# Altium schematic symbol library 10AS027E3F29I2SG.SchLib: 1 symbol
Pins are listed as number, name and electrical type; pins without a type are passive.

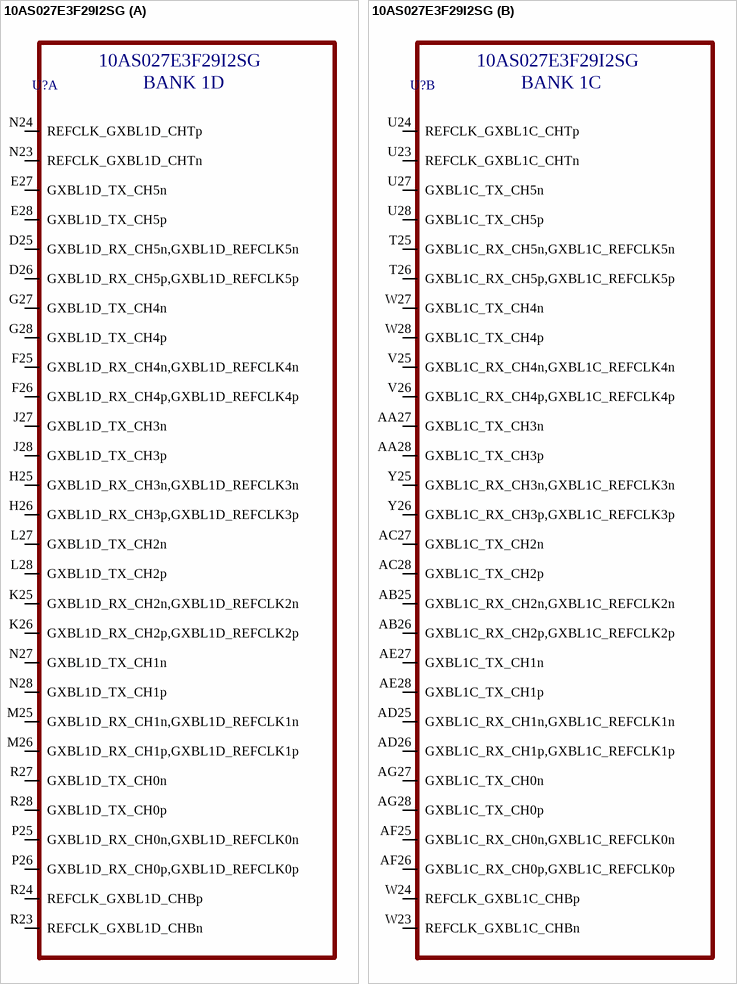
[diagram p0: symbol 10AS027E3F29I2SG]

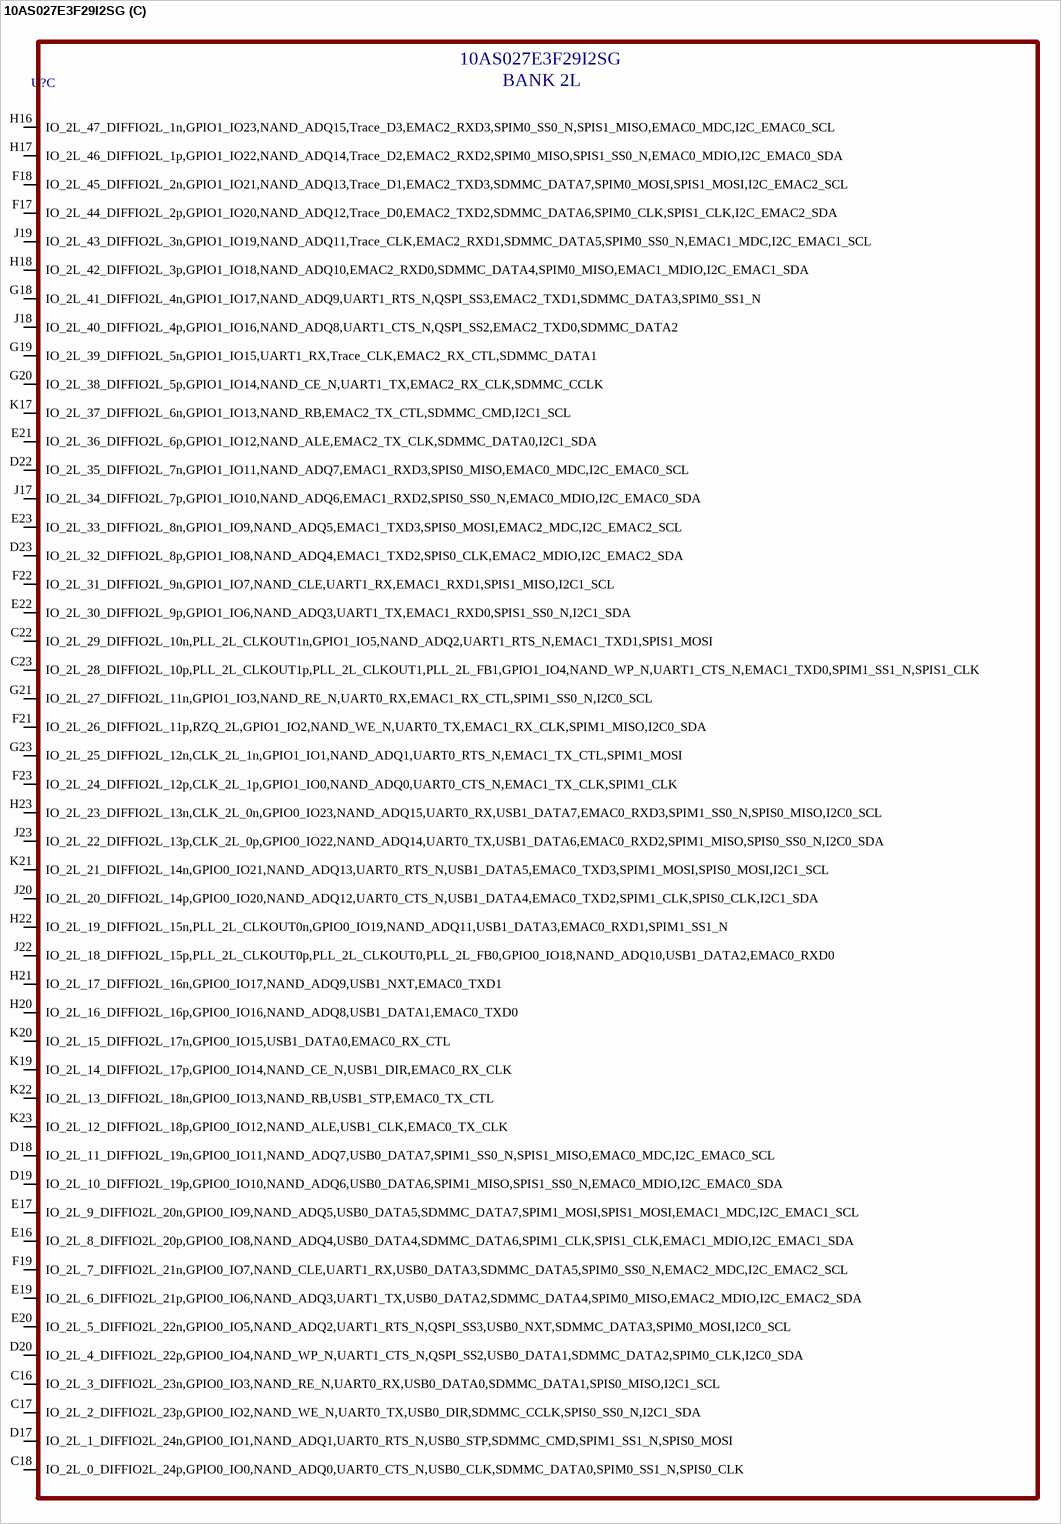
[diagram p1: symbol 10AS027E3F29I2SG]

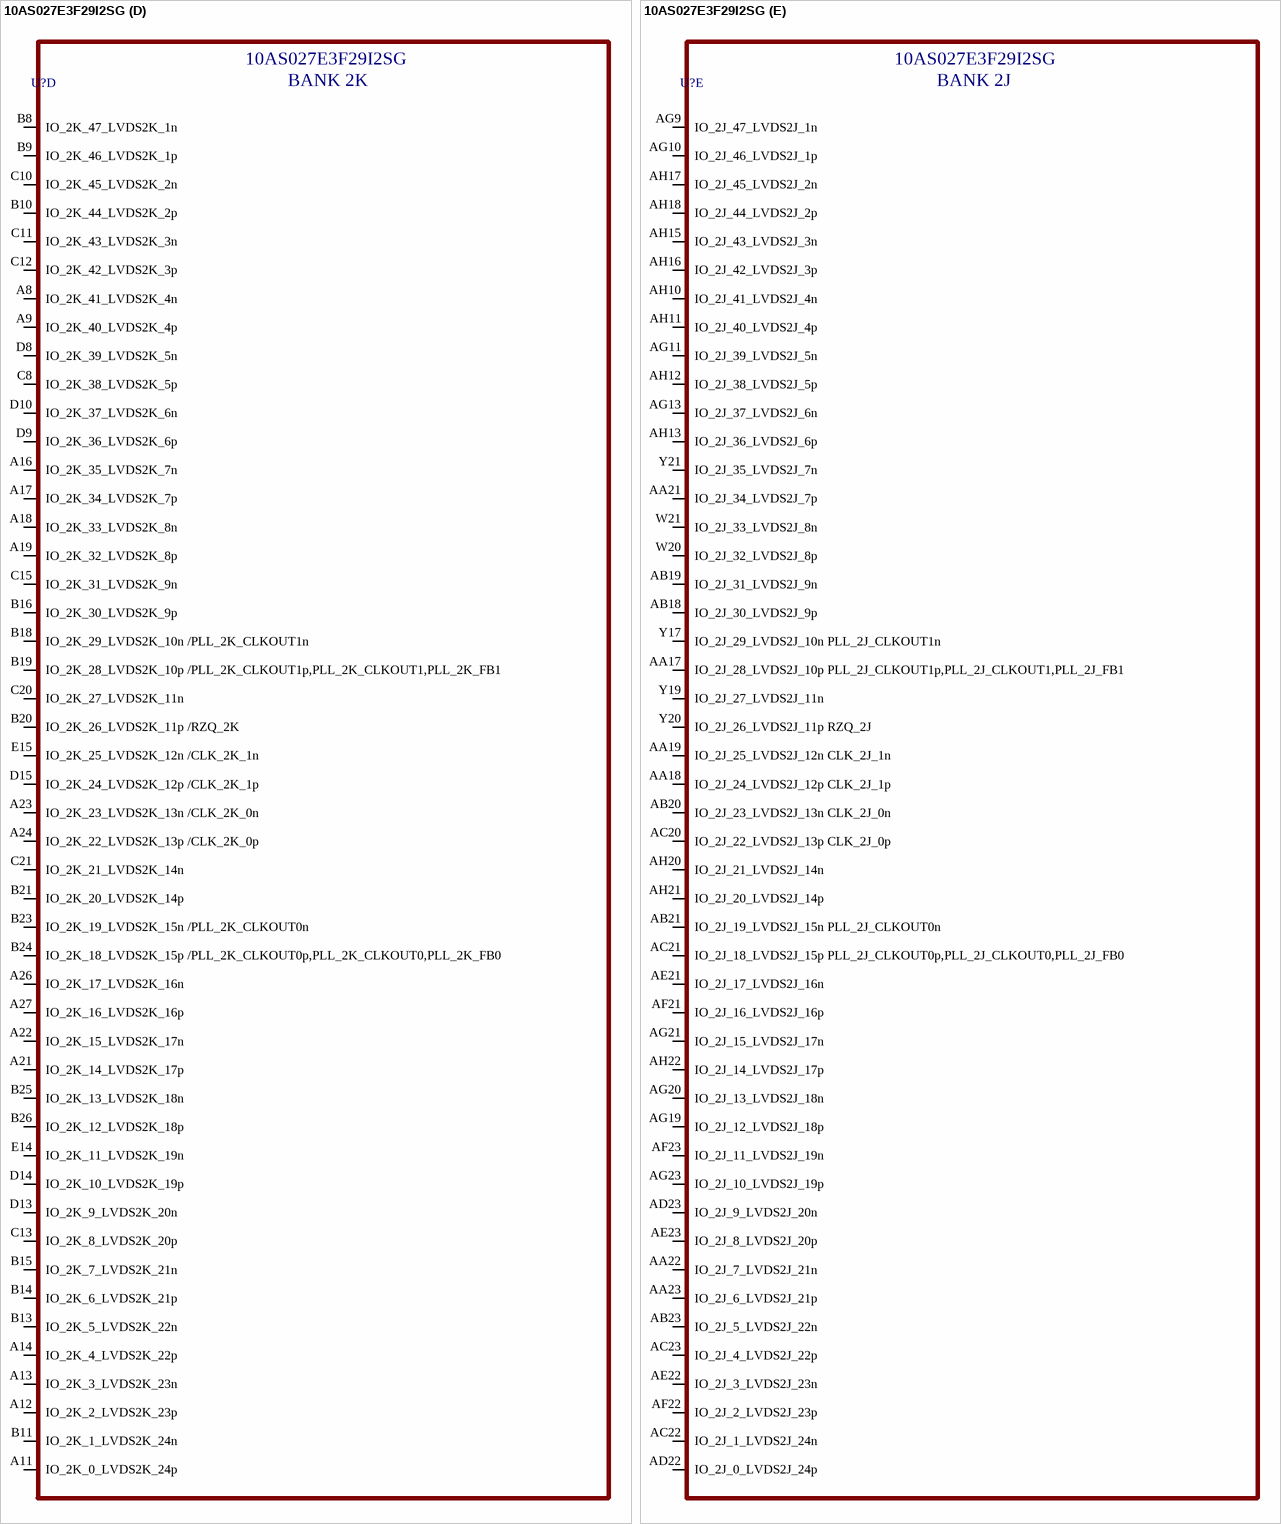
[diagram p2: symbol 10AS027E3F29I2SG]

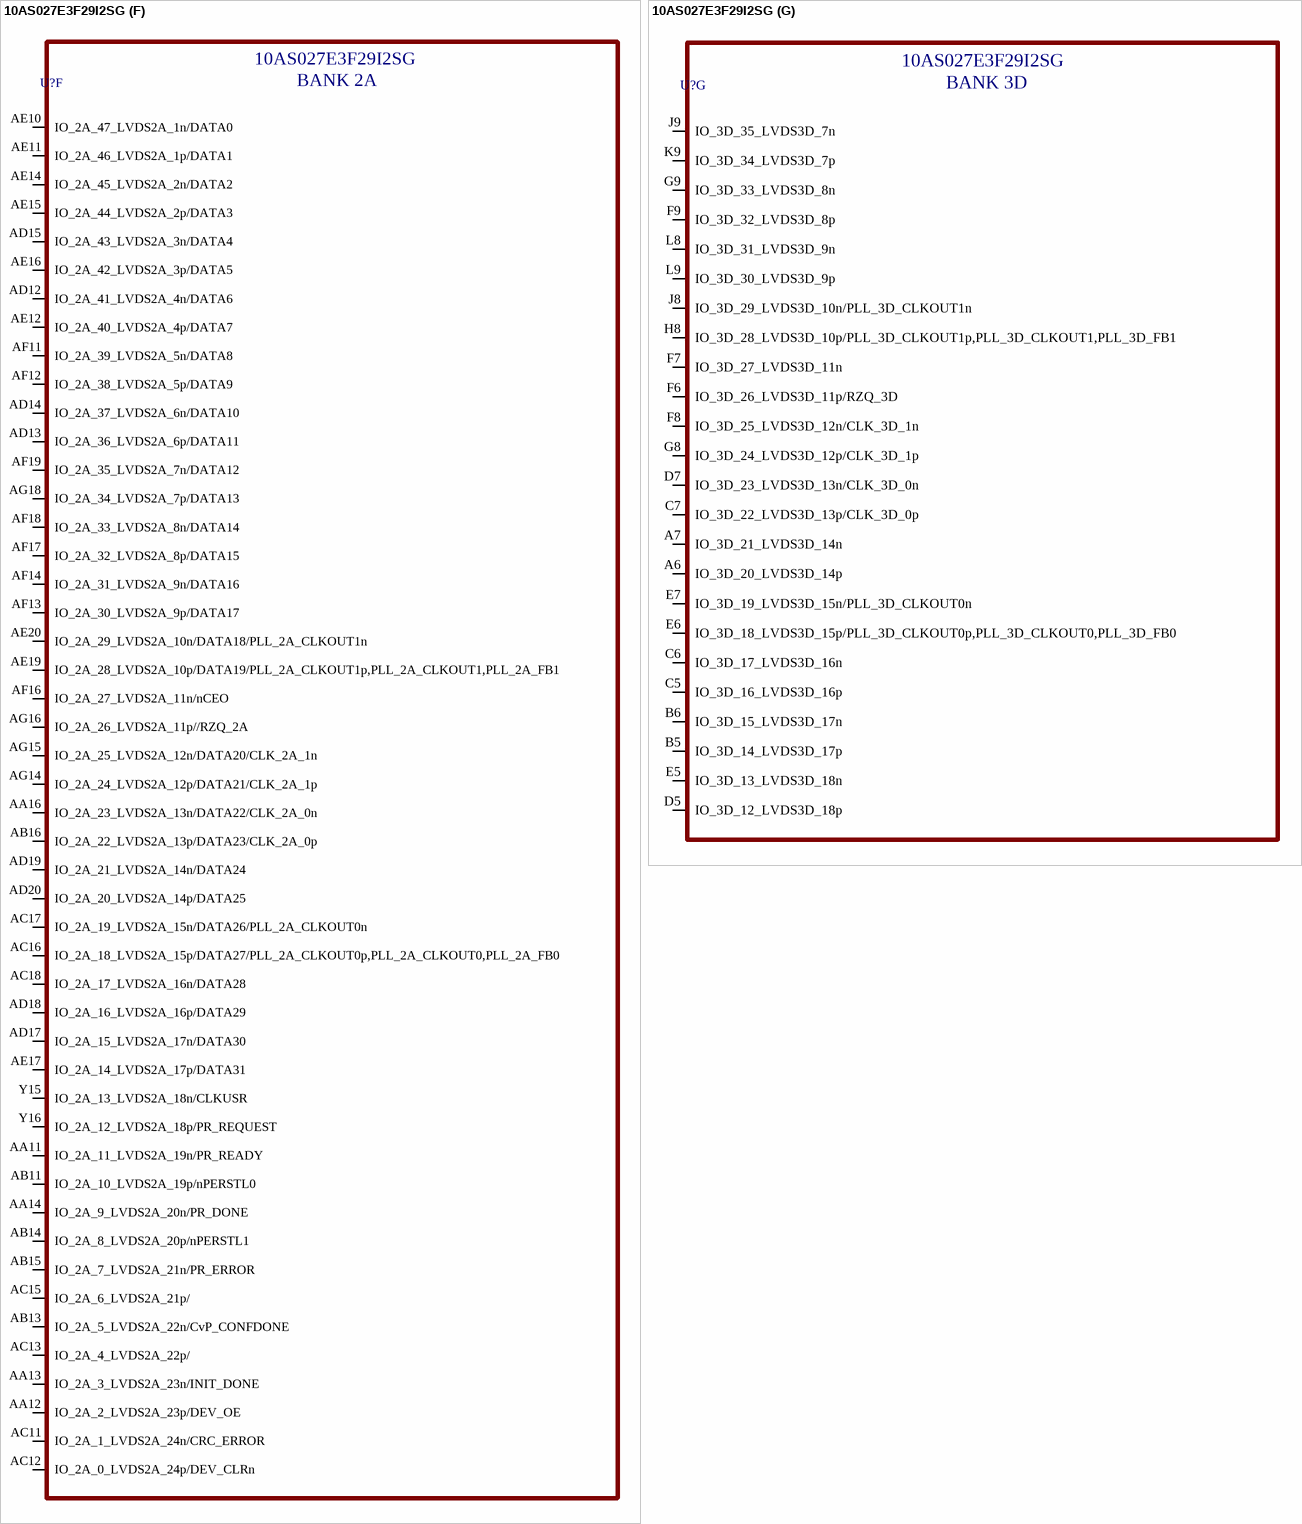
[diagram p3: symbol 10AS027E3F29I2SG]

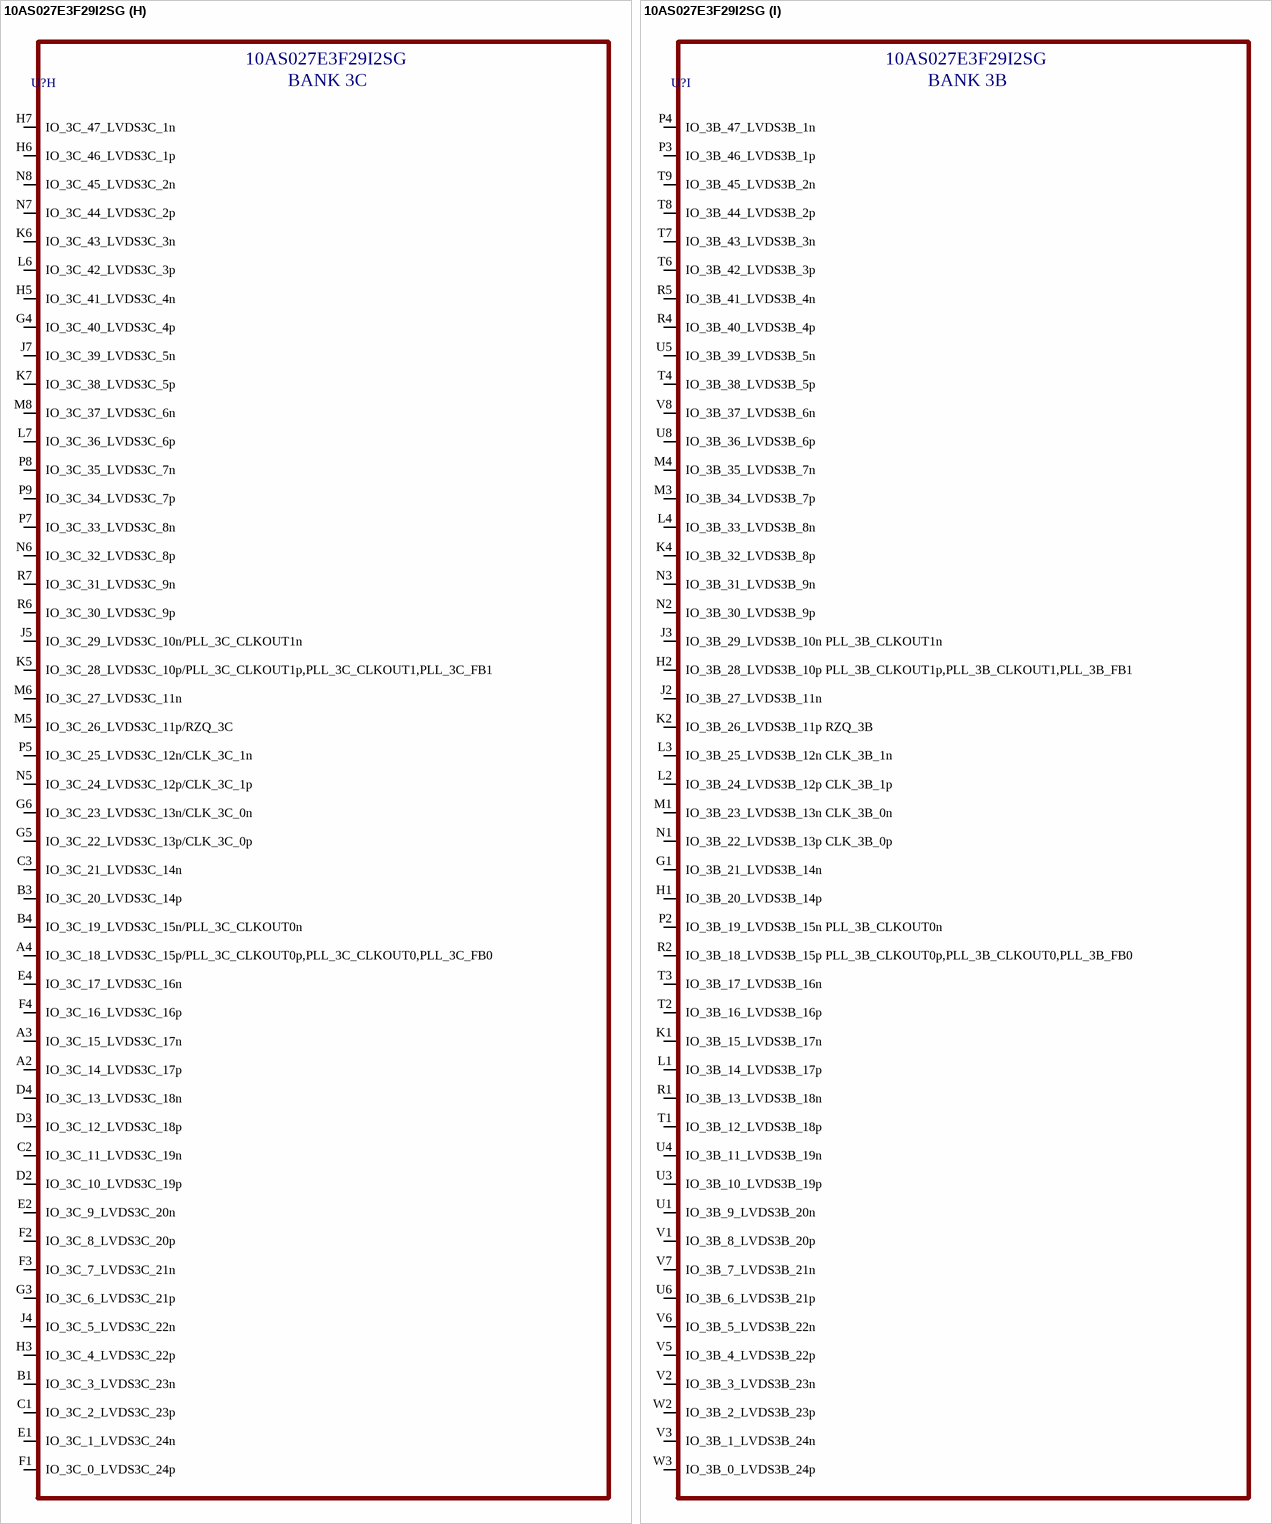
[diagram p4: symbol 10AS027E3F29I2SG]

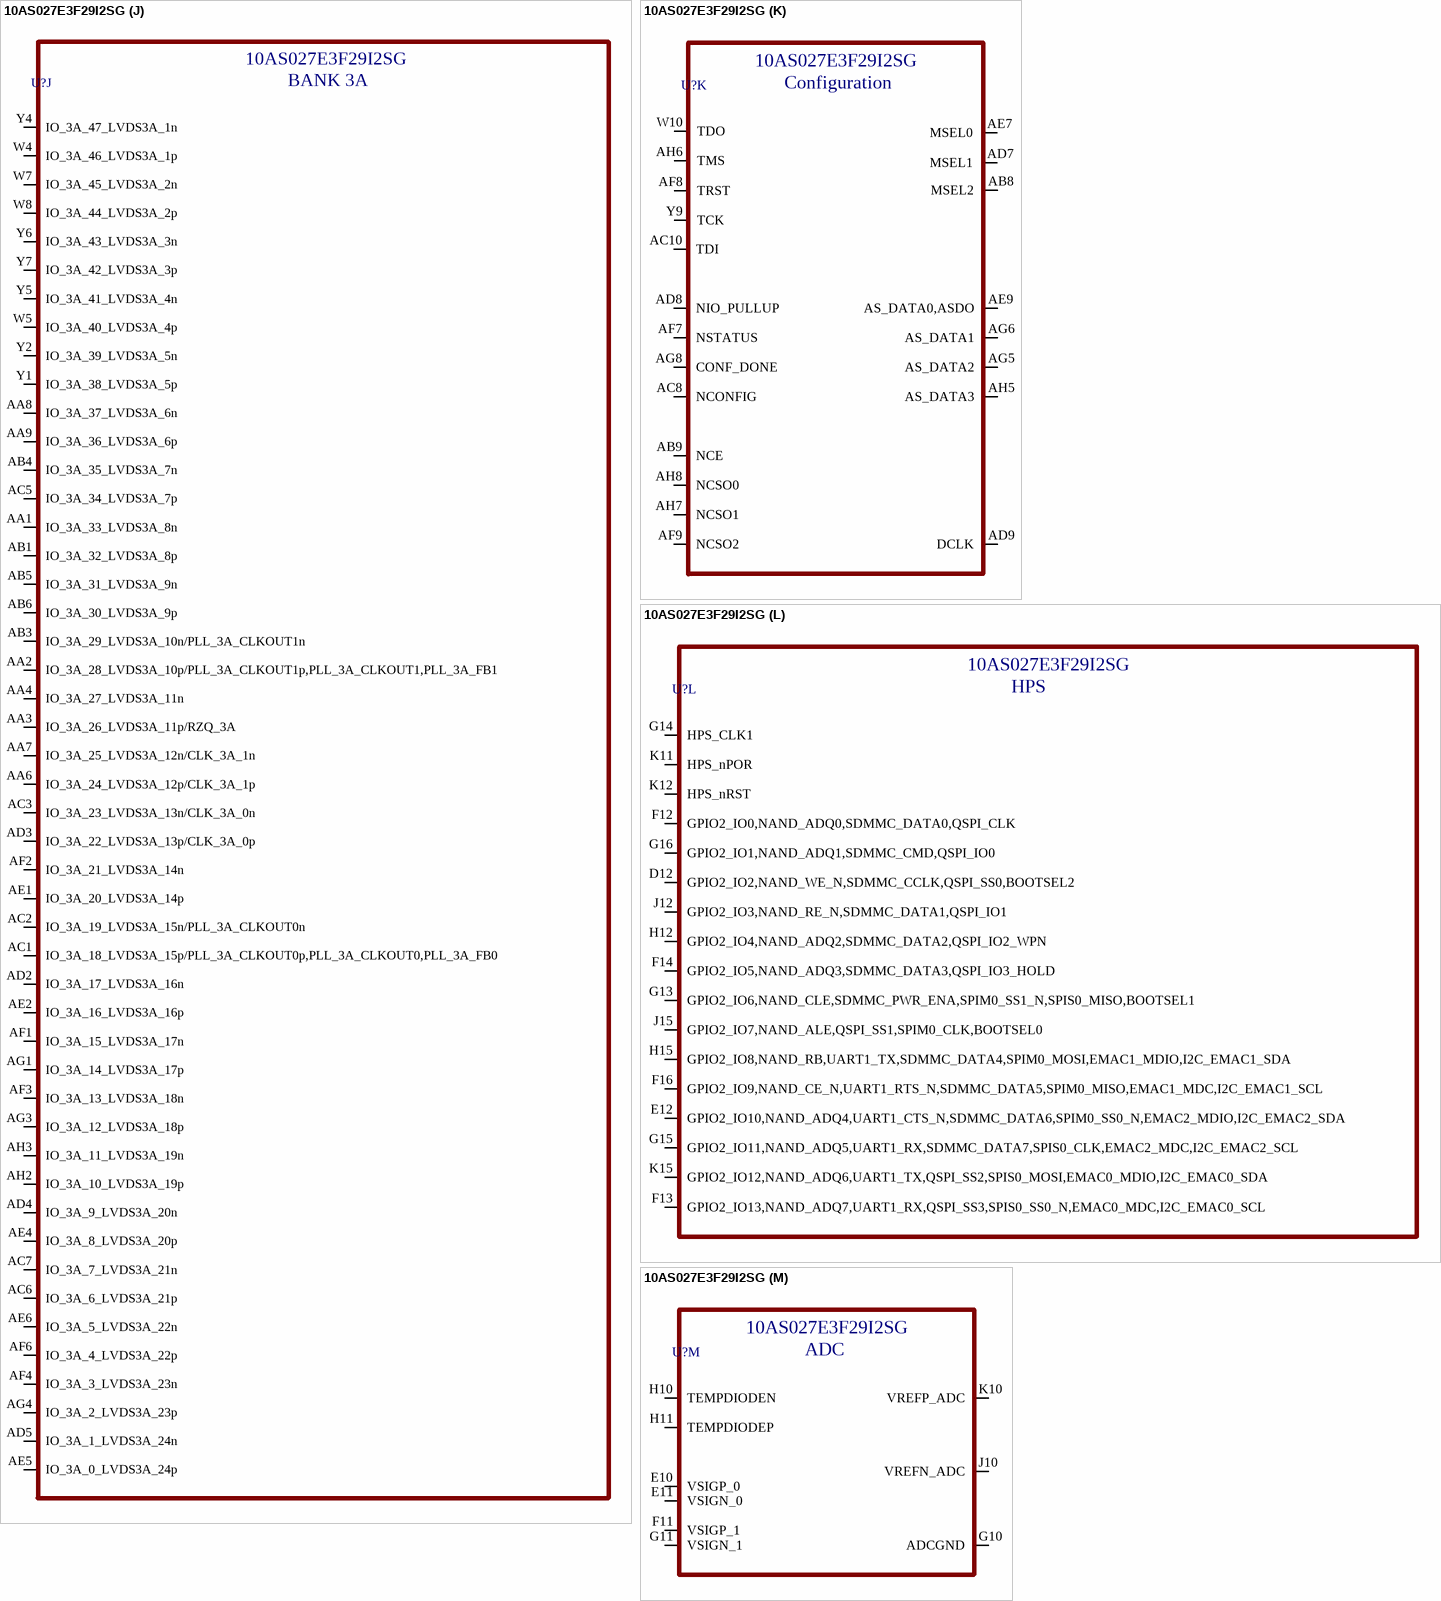
[diagram p5: symbol 10AS027E3F29I2SG]

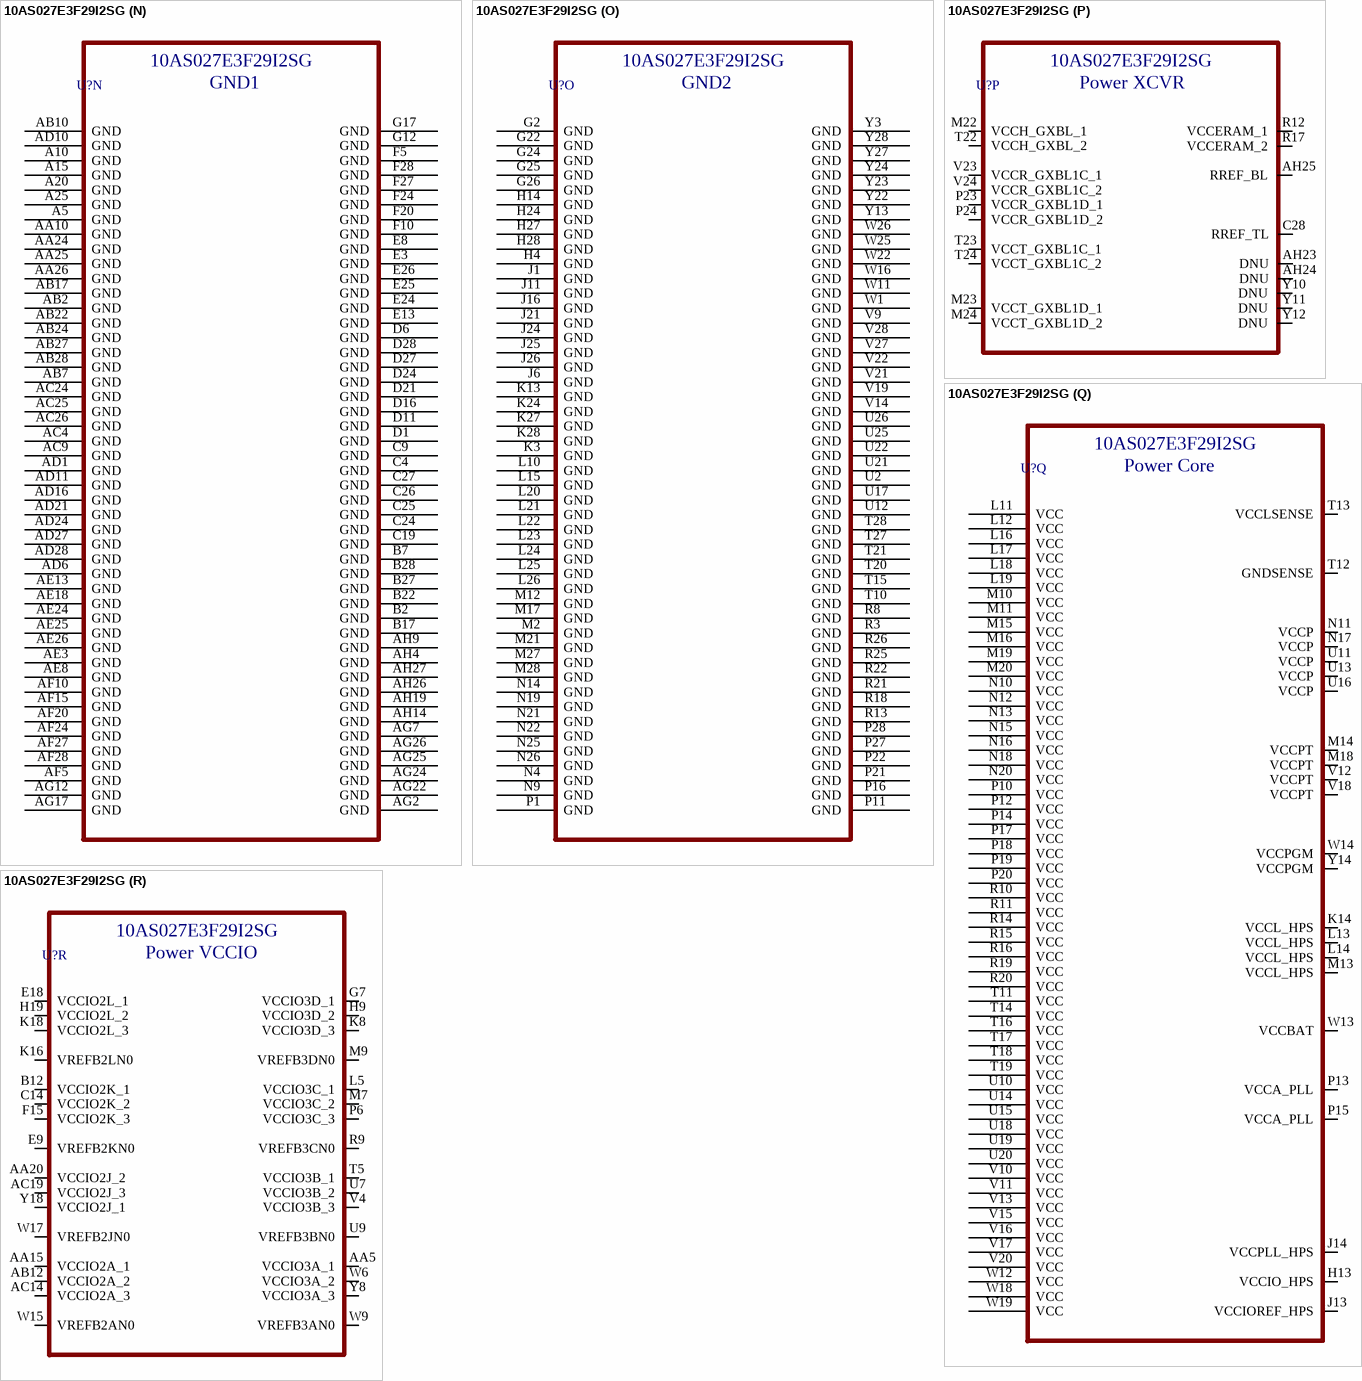
[diagram p6: symbol 10AS027E3F29I2SG]

## 10AS027E3F29I2SG
designator U?
part A pins: D25 GXBL1D_RX_CH5n,GXBL1D_REFCLK5n, D26 GXBL1D_RX_CH5p,GXBL1D_REFCLK5p, E27 GXBL1D_TX_CH5n, E28 GXBL1D_TX_CH5p, F25 GXBL1D_RX_CH4n,GXBL1D_REFCLK4n, F26 GXBL1D_RX_CH4p,GXBL1D_REFCLK4p, G27 GXBL1D_TX_CH4n, G28 GXBL1D_TX_CH4p, H25 GXBL1D_RX_CH3n,GXBL1D_REFCLK3n, H26 GXBL1D_RX_CH3p,GXBL1D_REFCLK3p, J27 GXBL1D_TX_CH3n, J28 GXBL1D_TX_CH3p, K25 GXBL1D_RX_CH2n,GXBL1D_REFCLK2n, K26 GXBL1D_RX_CH2p,GXBL1D_REFCLK2p, L27 GXBL1D_TX_CH2n, L28 GXBL1D_TX_CH2p, M25 GXBL1D_RX_CH1n,GXBL1D_REFCLK1n, M26 GXBL1D_RX_CH1p,GXBL1D_REFCLK1p, N23 REFCLK_GXBL1D_CHTn, N24 REFCLK_GXBL1D_CHTp, N27 GXBL1D_TX_CH1n, N28 GXBL1D_TX_CH1p, P25 GXBL1D_RX_CH0n,GXBL1D_REFCLK0n, P26 GXBL1D_RX_CH0p,GXBL1D_REFCLK0p, R23 REFCLK_GXBL1D_CHBn, R24 REFCLK_GXBL1D_CHBp, R27 GXBL1D_TX_CH0n, R28 GXBL1D_TX_CH0p
part B pins: AA27 GXBL1C_TX_CH3n, AA28 GXBL1C_TX_CH3p, AB25 GXBL1C_RX_CH2n,GXBL1C_REFCLK2n, AB26 GXBL1C_RX_CH2p,GXBL1C_REFCLK2p, AC27 GXBL1C_TX_CH2n, AC28 GXBL1C_TX_CH2p, AD25 GXBL1C_RX_CH1n,GXBL1C_REFCLK1n, AD26 GXBL1C_RX_CH1p,GXBL1C_REFCLK1p, AE27 GXBL1C_TX_CH1n, AE28 GXBL1C_TX_CH1p, AF25 GXBL1C_RX_CH0n,GXBL1C_REFCLK0n, AF26 GXBL1C_RX_CH0p,GXBL1C_REFCLK0p, AG27 GXBL1C_TX_CH0n, AG28 GXBL1C_TX_CH0p, T25 GXBL1C_RX_CH5n,GXBL1C_REFCLK5n, T26 GXBL1C_RX_CH5p,GXBL1C_REFCLK5p, U23 REFCLK_GXBL1C_CHTn, U24 REFCLK_GXBL1C_CHTp, U27 GXBL1C_TX_CH5n, U28 GXBL1C_TX_CH5p, V25 GXBL1C_RX_CH4n,GXBL1C_REFCLK4n, V26 GXBL1C_RX_CH4p,GXBL1C_REFCLK4p, W23 REFCLK_GXBL1C_CHBn, W24 REFCLK_GXBL1C_CHBp, W27 GXBL1C_TX_CH4n, W28 GXBL1C_TX_CH4p, Y25 GXBL1C_RX_CH3n,GXBL1C_REFCLK3n, Y26 GXBL1C_RX_CH3p,GXBL1C_REFCLK3p
part C pins: C16 IO_2L_3_DIFFIO2L_23n,GPIO0_IO3,NAND_RE_N,UART0_RX,USB0_DATA0,SDMMC_DATA1,SPIS0_MISO,I2C1_SCL, C17 IO_2L_2_DIFFIO2L_23p,GPIO0_IO2,NAND_WE_N,UART0_TX,USB0_DIR,SDMMC_CCLK,SPIS0_SS0_N,I2C1_SDA, C18 IO_2L_0_DIFFIO2L_24p,GPIO0_IO0,NAND_ADQ0,UART0_CTS_N,USB0_CLK,SDMMC_DATA0,SPIM0_SS1_N,SPIS0_CLK, C22 IO_2L_29_DIFFIO2L_10n,PLL_2L_CLKOUT1n,GPIO1_IO5,NAND_ADQ2,UART1_RTS_N,EMAC1_TXD1,SPIS1_MOSI, C23 IO_2L_28_DIFFIO2L_10p,PLL_2L_CLKOUT1p,PLL_2L_CLKOUT1,PLL_2L_FB1,GPIO1_IO4,NAND_WP_N,UART1_CTS_N,EMAC1_TXD0,SPIM1_SS1_N,SPIS1_CLK, D17 IO_2L_1_DIFFIO2L_24n,GPIO0_IO1,NAND_ADQ1,UART0_RTS_N,USB0_STP,SDMMC_CMD,SPIM1_SS1_N,SPIS0_MOSI, D18 IO_2L_11_DIFFIO2L_19n,GPIO0_IO11,NAND_ADQ7,USB0_DATA7,SPIM1_SS0_N,SPIS1_MISO,EMAC0_MDC,I2C_EMAC0_SCL, D19 IO_2L_10_DIFFIO2L_19p,GPIO0_IO10,NAND_ADQ6,USB0_DATA6,SPIM1_MISO,SPIS1_SS0_N,EMAC0_MDIO,I2C_EMAC0_SDA, D20 IO_2L_4_DIFFIO2L_22p,GPIO0_IO4,NAND_WP_N,UART1_CTS_N,QSPI_SS2,USB0_DATA1,SDMMC_DATA2,SPIM0_CLK,I2C0_SDA, D22 IO_2L_35_DIFFIO2L_7n,GPIO1_IO11,NAND_ADQ7,EMAC1_RXD3,SPIS0_MISO,EMAC0_MDC,I2C_EMAC0_SCL, D23 IO_2L_32_DIFFIO2L_8p,GPIO1_IO8,NAND_ADQ4,EMAC1_TXD2,SPIS0_CLK,EMAC2_MDIO,I2C_EMAC2_SDA, E16 IO_2L_8_DIFFIO2L_20p,GPIO0_IO8,NAND_ADQ4,USB0_DATA4,SDMMC_DATA6,SPIM1_CLK,SPIS1_CLK,EMAC1_MDIO,I2C_EMAC1_SDA, E17 IO_2L_9_DIFFIO2L_20n,GPIO0_IO9,NAND_ADQ5,USB0_DATA5,SDMMC_DATA7,SPIM1_MOSI,SPIS1_MOSI,EMAC1_MDC,I2C_EMAC1_SCL, E19 IO_2L_6_DIFFIO2L_21p,GPIO0_IO6,NAND_ADQ3,UART1_TX,USB0_DATA2,SDMMC_DATA4,SPIM0_MISO,EMAC2_MDIO,I2C_EMAC2_SDA, E20 IO_2L_5_DIFFIO2L_22n,GPIO0_IO5,NAND_ADQ2,UART1_RTS_N,QSPI_SS3,USB0_NXT,SDMMC_DATA3,SPIM0_MOSI,I2C0_SCL, E21 IO_2L_36_DIFFIO2L_6p,GPIO1_IO12,NAND_ALE,EMAC2_TX_CLK,SDMMC_DATA0,I2C1_SDA, E22 IO_2L_30_DIFFIO2L_9p,GPIO1_IO6,NAND_ADQ3,UART1_TX,EMAC1_RXD0,SPIS1_SS0_N,I2C1_SDA, E23 IO_2L_33_DIFFIO2L_8n,GPIO1_IO9,NAND_ADQ5,EMAC1_TXD3,SPIS0_MOSI,EMAC2_MDC,I2C_EMAC2_SCL, F17 IO_2L_44_DIFFIO2L_2p,GPIO1_IO20,NAND_ADQ12,Trace_D0,EMAC2_TXD2,SDMMC_DATA6,SPIM0_CLK,SPIS1_CLK,I2C_EMAC2_SDA, F18 IO_2L_45_DIFFIO2L_2n,GPIO1_IO21,NAND_ADQ13,Trace_D1,EMAC2_TXD3,SDMMC_DATA7,SPIM0_MOSI,SPIS1_MOSI,I2C_EMAC2_SCL, F19 IO_2L_7_DIFFIO2L_21n,GPIO0_IO7,NAND_CLE,UART1_RX,USB0_DATA3,SDMMC_DATA5,SPIM0_SS0_N,EMAC2_MDC,I2C_EMAC2_SCL, F21 IO_2L_26_DIFFIO2L_11p,RZQ_2L,GPIO1_IO2,NAND_WE_N,UART0_TX,EMAC1_RX_CLK,SPIM1_MISO,I2C0_SDA, F22 IO_2L_31_DIFFIO2L_9n,GPIO1_IO7,NAND_CLE,UART1_RX,EMAC1_RXD1,SPIS1_MISO,I2C1_SCL, F23 IO_2L_24_DIFFIO2L_12p,CLK_2L_1p,GPIO1_IO0,NAND_ADQ0,UART0_CTS_N,EMAC1_TX_CLK,SPIM1_CLK, G18 IO_2L_41_DIFFIO2L_4n,GPIO1_IO17,NAND_ADQ9,UART1_RTS_N,QSPI_SS3,EMAC2_TXD1,SDMMC_DATA3,SPIM0_SS1_N, G19 IO_2L_39_DIFFIO2L_5n,GPIO1_IO15,UART1_RX,Trace_CLK,EMAC2_RX_CTL,SDMMC_DATA1, G20 IO_2L_38_DIFFIO2L_5p,GPIO1_IO14,NAND_CE_N,UART1_TX,EMAC2_RX_CLK,SDMMC_CCLK, G21 IO_2L_27_DIFFIO2L_11n,GPIO1_IO3,NAND_RE_N,UART0_RX,EMAC1_RX_CTL,SPIM1_SS0_N,I2C0_SCL, G23 IO_2L_25_DIFFIO2L_12n,CLK_2L_1n,GPIO1_IO1,NAND_ADQ1,UART0_RTS_N,EMAC1_TX_CTL,SPIM1_MOSI, H16 IO_2L_47_DIFFIO2L_1n,GPIO1_IO23,NAND_ADQ15,Trace_D3,EMAC2_RXD3,SPIM0_SS0_N,SPIS1_MISO,EMAC0_MDC,I2C_EMAC0_SCL, H17 IO_2L_46_DIFFIO2L_1p,GPIO1_IO22,NAND_ADQ14,Trace_D2,EMAC2_RXD2,SPIM0_MISO,SPIS1_SS0_N,EMAC0_MDIO,I2C_EMAC0_SDA, H18 IO_2L_42_DIFFIO2L_3p,GPIO1_IO18,NAND_ADQ10,EMAC2_RXD0,SDMMC_DATA4,SPIM0_MISO,EMAC1_MDIO,I2C_EMAC1_SDA, H20 IO_2L_16_DIFFIO2L_16p,GPIO0_IO16,NAND_ADQ8,USB1_DATA1,EMAC0_TXD0, H21 IO_2L_17_DIFFIO2L_16n,GPIO0_IO17,NAND_ADQ9,USB1_NXT,EMAC0_TXD1, H22 IO_2L_19_DIFFIO2L_15n,PLL_2L_CLKOUT0n,GPIO0_IO19,NAND_ADQ11,USB1_DATA3,EMAC0_RXD1,SPIM1_SS1_N, H23 IO_2L_23_DIFFIO2L_13n,CLK_2L_0n,GPIO0_IO23,NAND_ADQ15,UART0_RX,USB1_DATA7,EMAC0_RXD3,SPIM1_SS0_N,SPIS0_MISO,I2C0_SCL, J17 IO_2L_34_DIFFIO2L_7p,GPIO1_IO10,NAND_ADQ6,EMAC1_RXD2,SPIS0_SS0_N,EMAC0_MDIO,I2C_EMAC0_SDA, J18 IO_2L_40_DIFFIO2L_4p,GPIO1_IO16,NAND_ADQ8,UART1_CTS_N,QSPI_SS2,EMAC2_TXD0,SDMMC_DATA2, J19 IO_2L_43_DIFFIO2L_3n,GPIO1_IO19,NAND_ADQ11,Trace_CLK,EMAC2_RXD1,SDMMC_DATA5,SPIM0_SS0_N,EMAC1_MDC,I2C_EMAC1_SCL, J20 IO_2L_20_DIFFIO2L_14p,GPIO0_IO20,NAND_ADQ12,UART0_CTS_N,USB1_DATA4,EMAC0_TXD2,SPIM1_CLK,SPIS0_CLK,I2C1_SDA, J22 IO_2L_18_DIFFIO2L_15p,PLL_2L_CLKOUT0p,PLL_2L_CLKOUT0,PLL_2L_FB0,GPIO0_IO18,NAND_ADQ10,USB1_DATA2,EMAC0_RXD0, J23 IO_2L_22_DIFFIO2L_13p,CLK_2L_0p,GPIO0_IO22,NAND_ADQ14,UART0_TX,USB1_DATA6,EMAC0_RXD2,SPIM1_MISO,SPIS0_SS0_N,I2C0_SDA, K17 IO_2L_37_DIFFIO2L_6n,GPIO1_IO13,NAND_RB,EMAC2_TX_CTL,SDMMC_CMD,I2C1_SCL, K19 IO_2L_14_DIFFIO2L_17p,GPIO0_IO14,NAND_CE_N,USB1_DIR,EMAC0_RX_CLK, K20 IO_2L_15_DIFFIO2L_17n,GPIO0_IO15,USB1_DATA0,EMAC0_RX_CTL, K21 IO_2L_21_DIFFIO2L_14n,GPIO0_IO21,NAND_ADQ13,UART0_RTS_N,USB1_DATA5,EMAC0_TXD3,SPIM1_MOSI,SPIS0_MOSI,I2C1_SCL, K22 IO_2L_13_DIFFIO2L_18n,GPIO0_IO13,NAND_RB,USB1_STP,EMAC0_TX_CTL, K23 IO_2L_12_DIFFIO2L_18p,GPIO0_IO12,NAND_ALE,USB1_CLK,EMAC0_TX_CLK
part D pins: A8 IO_2K_41_LVDS2K_4n, A9 IO_2K_40_LVDS2K_4p, A11 IO_2K_0_LVDS2K_24p, A12 IO_2K_2_LVDS2K_23p, A13 IO_2K_3_LVDS2K_23n, A14 IO_2K_4_LVDS2K_22p, A16 IO_2K_35_LVDS2K_7n, A17 IO_2K_34_LVDS2K_7p, A18 IO_2K_33_LVDS2K_8n, A19 IO_2K_32_LVDS2K_8p, A21 IO_2K_14_LVDS2K_17p, A22 IO_2K_15_LVDS2K_17n, A23 IO_2K_23_LVDS2K_13n /CLK_2K_0n, A24 IO_2K_22_LVDS2K_13p /CLK_2K_0p, A26 IO_2K_17_LVDS2K_16n, A27 IO_2K_16_LVDS2K_16p, B8 IO_2K_47_LVDS2K_1n, B9 IO_2K_46_LVDS2K_1p, B10 IO_2K_44_LVDS2K_2p, B11 IO_2K_1_LVDS2K_24n, B13 IO_2K_5_LVDS2K_22n, B14 IO_2K_6_LVDS2K_21p, B15 IO_2K_7_LVDS2K_21n, B16 IO_2K_30_LVDS2K_9p, B18 IO_2K_29_LVDS2K_10n /PLL_2K_CLKOUT1n, B19 IO_2K_28_LVDS2K_10p /PLL_2K_CLKOUT1p,PLL_2K_CLKOUT1,PLL_2K_FB1, B20 IO_2K_26_LVDS2K_11p /RZQ_2K, B21 IO_2K_20_LVDS2K_14p , B23 IO_2K_19_LVDS2K_15n /PLL_2K_CLKOUT0n, B24 IO_2K_18_LVDS2K_15p /PLL_2K_CLKOUT0p,PLL_2K_CLKOUT0,PLL_2K_FB0, B25 IO_2K_13_LVDS2K_18n, B26 IO_2K_12_LVDS2K_18p, C8 IO_2K_38_LVDS2K_5p, C10 IO_2K_45_LVDS2K_2n, C11 IO_2K_43_LVDS2K_3n, C12 IO_2K_42_LVDS2K_3p, C13 IO_2K_8_LVDS2K_20p, C15 IO_2K_31_LVDS2K_9n, C20 IO_2K_27_LVDS2K_11n , C21 IO_2K_21_LVDS2K_14n , D8 IO_2K_39_LVDS2K_5n, D9 IO_2K_36_LVDS2K_6p, D10 IO_2K_37_LVDS2K_6n, D13 IO_2K_9_LVDS2K_20n, D14 IO_2K_10_LVDS2K_19p, D15 IO_2K_24_LVDS2K_12p /CLK_2K_1p, E14 IO_2K_11_LVDS2K_19n, E15 IO_2K_25_LVDS2K_12n /CLK_2K_1n
part E pins: AA17 IO_2J_28_LVDS2J_10p PLL_2J_CLKOUT1p,PLL_2J_CLKOUT1,PLL_2J_FB1, AA18 IO_2J_24_LVDS2J_12p CLK_2J_1p, AA19 IO_2J_25_LVDS2J_12n CLK_2J_1n, AA21 IO_2J_34_LVDS2J_7p , AA22 IO_2J_7_LVDS2J_21n , AA23 IO_2J_6_LVDS2J_21p , AB18 IO_2J_30_LVDS2J_9p , AB19 IO_2J_31_LVDS2J_9n , AB20 IO_2J_23_LVDS2J_13n CLK_2J_0n, AB21 IO_2J_19_LVDS2J_15n PLL_2J_CLKOUT0n, AB23 IO_2J_5_LVDS2J_22n , AC20 IO_2J_22_LVDS2J_13p CLK_2J_0p, AC21 IO_2J_18_LVDS2J_15p PLL_2J_CLKOUT0p,PLL_2J_CLKOUT0,PLL_2J_FB0, AC22 IO_2J_1_LVDS2J_24n , AC23 IO_2J_4_LVDS2J_22p , AD22 IO_2J_0_LVDS2J_24p , AD23 IO_2J_9_LVDS2J_20n , AE21 IO_2J_17_LVDS2J_16n , AE22 IO_2J_3_LVDS2J_23n , AE23 IO_2J_8_LVDS2J_20p , AF21 IO_2J_16_LVDS2J_16p , AF22 IO_2J_2_LVDS2J_23p , AF23 IO_2J_11_LVDS2J_19n , AG9 IO_2J_47_LVDS2J_1n , AG10 IO_2J_46_LVDS2J_1p , AG11 IO_2J_39_LVDS2J_5n , AG13 IO_2J_37_LVDS2J_6n , AG19 IO_2J_12_LVDS2J_18p , AG20 IO_2J_13_LVDS2J_18n , AG21 IO_2J_15_LVDS2J_17n , AG23 IO_2J_10_LVDS2J_19p , AH10 IO_2J_41_LVDS2J_4n , AH11 IO_2J_40_LVDS2J_4p , AH12 IO_2J_38_LVDS2J_5p , AH13 IO_2J_36_LVDS2J_6p , AH15 IO_2J_43_LVDS2J_3n , AH16 IO_2J_42_LVDS2J_3p , AH17 IO_2J_45_LVDS2J_2n , AH18 IO_2J_44_LVDS2J_2p , AH20 IO_2J_21_LVDS2J_14n , AH21 IO_2J_20_LVDS2J_14p , AH22 IO_2J_14_LVDS2J_17p , W20 IO_2J_32_LVDS2J_8p , W21 IO_2J_33_LVDS2J_8n , Y17 IO_2J_29_LVDS2J_10n PLL_2J_CLKOUT1n, Y19 IO_2J_27_LVDS2J_11n , Y20 IO_2J_26_LVDS2J_11p RZQ_2J, Y21 IO_2J_35_LVDS2J_7n 
part F pins: AA11 IO_2A_11_LVDS2A_19n/PR_READY, AA12 IO_2A_2_LVDS2A_23p/DEV_OE, AA13 IO_2A_3_LVDS2A_23n/INIT_DONE, AA14 IO_2A_9_LVDS2A_20n/PR_DONE, AA16 IO_2A_23_LVDS2A_13n/DATA22/CLK_2A_0n, AB11 IO_2A_10_LVDS2A_19p/nPERSTL0, AB13 IO_2A_5_LVDS2A_22n/CvP_CONFDONE, AB14 IO_2A_8_LVDS2A_20p/nPERSTL1, AB15 IO_2A_7_LVDS2A_21n/PR_ERROR, AB16 IO_2A_22_LVDS2A_13p/DATA23/CLK_2A_0p, AC11 IO_2A_1_LVDS2A_24n/CRC_ERROR, AC12 IO_2A_0_LVDS2A_24p/DEV_CLRn, AC13 IO_2A_4_LVDS2A_22p/, AC15 IO_2A_6_LVDS2A_21p/, AC16 IO_2A_18_LVDS2A_15p/DATA27/PLL_2A_CLKOUT0p,PLL_2A_CLKOUT0,PLL_2A_FB0, AC17 IO_2A_19_LVDS2A_15n/DATA26/PLL_2A_CLKOUT0n, AC18 IO_2A_17_LVDS2A_16n/DATA28, AD12 IO_2A_41_LVDS2A_4n/DATA6, AD13 IO_2A_36_LVDS2A_6p/DATA11, AD14 IO_2A_37_LVDS2A_6n/DATA10, AD15 IO_2A_43_LVDS2A_3n/DATA4, AD17 IO_2A_15_LVDS2A_17n/DATA30, AD18 IO_2A_16_LVDS2A_16p/DATA29, AD19 IO_2A_21_LVDS2A_14n/DATA24, AD20 IO_2A_20_LVDS2A_14p/DATA25, AE10 IO_2A_47_LVDS2A_1n/DATA0, AE11 IO_2A_46_LVDS2A_1p/DATA1, AE12 IO_2A_40_LVDS2A_4p/DATA7, AE14 IO_2A_45_LVDS2A_2n/DATA2, AE15 IO_2A_44_LVDS2A_2p/DATA3, AE16 IO_2A_42_LVDS2A_3p/DATA5, AE17 IO_2A_14_LVDS2A_17p/DATA31, AE19 IO_2A_28_LVDS2A_10p/DATA19/PLL_2A_CLKOUT1p,PLL_2A_CLKOUT1,PLL_2A_FB1, AE20 IO_2A_29_LVDS2A_10n/DATA18/PLL_2A_CLKOUT1n, AF11 IO_2A_39_LVDS2A_5n/DATA8, AF12 IO_2A_38_LVDS2A_5p/DATA9, AF13 IO_2A_30_LVDS2A_9p/DATA17, AF14 IO_2A_31_LVDS2A_9n/DATA16, AF16 IO_2A_27_LVDS2A_11n/nCEO, AF17 IO_2A_32_LVDS2A_8p/DATA15, AF18 IO_2A_33_LVDS2A_8n/DATA14, AF19 IO_2A_35_LVDS2A_7n/DATA12, AG14 IO_2A_24_LVDS2A_12p/DATA21/CLK_2A_1p, AG15 IO_2A_25_LVDS2A_12n/DATA20/CLK_2A_1n, AG16 IO_2A_26_LVDS2A_11p//RZQ_2A, AG18 IO_2A_34_LVDS2A_7p/DATA13, Y15 IO_2A_13_LVDS2A_18n/CLKUSR, Y16 IO_2A_12_LVDS2A_18p/PR_REQUEST
part G pins: A6 IO_3D_20_LVDS3D_14p, A7 IO_3D_21_LVDS3D_14n, B5 IO_3D_14_LVDS3D_17p, B6 IO_3D_15_LVDS3D_17n, C5 IO_3D_16_LVDS3D_16p, C6 IO_3D_17_LVDS3D_16n, C7 IO_3D_22_LVDS3D_13p/CLK_3D_0p, D5 IO_3D_12_LVDS3D_18p, D7 IO_3D_23_LVDS3D_13n/CLK_3D_0n, E5 IO_3D_13_LVDS3D_18n, E6 IO_3D_18_LVDS3D_15p/PLL_3D_CLKOUT0p,PLL_3D_CLKOUT0,PLL_3D_FB0, E7 IO_3D_19_LVDS3D_15n/PLL_3D_CLKOUT0n, F6 IO_3D_26_LVDS3D_11p/RZQ_3D, F7 IO_3D_27_LVDS3D_11n, F8 IO_3D_25_LVDS3D_12n/CLK_3D_1n, F9 IO_3D_32_LVDS3D_8p, G8 IO_3D_24_LVDS3D_12p/CLK_3D_1p, G9 IO_3D_33_LVDS3D_8n, H8 IO_3D_28_LVDS3D_10p/PLL_3D_CLKOUT1p,PLL_3D_CLKOUT1,PLL_3D_FB1, J8 IO_3D_29_LVDS3D_10n/PLL_3D_CLKOUT1n, J9 IO_3D_35_LVDS3D_7n, K9 IO_3D_34_LVDS3D_7p, L8 IO_3D_31_LVDS3D_9n, L9 IO_3D_30_LVDS3D_9p
part H pins: A2 IO_3C_14_LVDS3C_17p , A3 IO_3C_15_LVDS3C_17n , A4 IO_3C_18_LVDS3C_15p/PLL_3C_CLKOUT0p,PLL_3C_CLKOUT0,PLL_3C_FB0, B1 IO_3C_3_LVDS3C_23n , B3 IO_3C_20_LVDS3C_14p , B4 IO_3C_19_LVDS3C_15n/PLL_3C_CLKOUT0n, C1 IO_3C_2_LVDS3C_23p , C2 IO_3C_11_LVDS3C_19n , C3 IO_3C_21_LVDS3C_14n , D2 IO_3C_10_LVDS3C_19p , D3 IO_3C_12_LVDS3C_18p , D4 IO_3C_13_LVDS3C_18n , E1 IO_3C_1_LVDS3C_24n , E2 IO_3C_9_LVDS3C_20n , E4 IO_3C_17_LVDS3C_16n , F1 IO_3C_0_LVDS3C_24p , F2 IO_3C_8_LVDS3C_20p , F3 IO_3C_7_LVDS3C_21n , F4 IO_3C_16_LVDS3C_16p , G3 IO_3C_6_LVDS3C_21p , G4 IO_3C_40_LVDS3C_4p , G5 IO_3C_22_LVDS3C_13p/CLK_3C_0p, G6 IO_3C_23_LVDS3C_13n/CLK_3C_0n, H3 IO_3C_4_LVDS3C_22p , H5 IO_3C_41_LVDS3C_4n , H6 IO_3C_46_LVDS3C_1p , H7 IO_3C_47_LVDS3C_1n , J4 IO_3C_5_LVDS3C_22n , J5 IO_3C_29_LVDS3C_10n/PLL_3C_CLKOUT1n, J7 IO_3C_39_LVDS3C_5n , K5 IO_3C_28_LVDS3C_10p/PLL_3C_CLKOUT1p,PLL_3C_CLKOUT1,PLL_3C_FB1, K6 IO_3C_43_LVDS3C_3n , K7 IO_3C_38_LVDS3C_5p , L6 IO_3C_42_LVDS3C_3p , L7 IO_3C_36_LVDS3C_6p , M5 IO_3C_26_LVDS3C_11p/RZQ_3C, M6 IO_3C_27_LVDS3C_11n , M8 IO_3C_37_LVDS3C_6n , N5 IO_3C_24_LVDS3C_12p/CLK_3C_1p, N6 IO_3C_32_LVDS3C_8p , N7 IO_3C_44_LVDS3C_2p , N8 IO_3C_45_LVDS3C_2n , P5 IO_3C_25_LVDS3C_12n/CLK_3C_1n, P7 IO_3C_33_LVDS3C_8n , P8 IO_3C_35_LVDS3C_7n , P9 IO_3C_34_LVDS3C_7p , R6 IO_3C_30_LVDS3C_9p , R7 IO_3C_31_LVDS3C_9n 
part I pins: G1 IO_3B_21_LVDS3B_14n , H1 IO_3B_20_LVDS3B_14p , H2 IO_3B_28_LVDS3B_10p PLL_3B_CLKOUT1p,PLL_3B_CLKOUT1,PLL_3B_FB1, J2 IO_3B_27_LVDS3B_11n , J3 IO_3B_29_LVDS3B_10n PLL_3B_CLKOUT1n, K1 IO_3B_15_LVDS3B_17n , K2 IO_3B_26_LVDS3B_11p RZQ_3B, K4 IO_3B_32_LVDS3B_8p , L1 IO_3B_14_LVDS3B_17p , L2 IO_3B_24_LVDS3B_12p CLK_3B_1p, L3 IO_3B_25_LVDS3B_12n CLK_3B_1n, L4 IO_3B_33_LVDS3B_8n , M1 IO_3B_23_LVDS3B_13n CLK_3B_0n, M3 IO_3B_34_LVDS3B_7p , M4 IO_3B_35_LVDS3B_7n , N1 IO_3B_22_LVDS3B_13p CLK_3B_0p, N2 IO_3B_30_LVDS3B_9p , N3 IO_3B_31_LVDS3B_9n , P2 IO_3B_19_LVDS3B_15n PLL_3B_CLKOUT0n, P3 IO_3B_46_LVDS3B_1p , P4 IO_3B_47_LVDS3B_1n , R1 IO_3B_13_LVDS3B_18n , R2 IO_3B_18_LVDS3B_15p PLL_3B_CLKOUT0p,PLL_3B_CLKOUT0,PLL_3B_FB0, R4 IO_3B_40_LVDS3B_4p , R5 IO_3B_41_LVDS3B_4n , T1 IO_3B_12_LVDS3B_18p , T2 IO_3B_16_LVDS3B_16p , T3 IO_3B_17_LVDS3B_16n , T4 IO_3B_38_LVDS3B_5p , T6 IO_3B_42_LVDS3B_3p , T7 IO_3B_43_LVDS3B_3n , T8 IO_3B_44_LVDS3B_2p , T9 IO_3B_45_LVDS3B_2n , U1 IO_3B_9_LVDS3B_20n , U3 IO_3B_10_LVDS3B_19p , U4 IO_3B_11_LVDS3B_19n , U5 IO_3B_39_LVDS3B_5n , U6 IO_3B_6_LVDS3B_21p , U8 IO_3B_36_LVDS3B_6p , V1 IO_3B_8_LVDS3B_20p , V2 IO_3B_3_LVDS3B_23n , V3 IO_3B_1_LVDS3B_24n , V5 IO_3B_4_LVDS3B_22p , V6 IO_3B_5_LVDS3B_22n , V7 IO_3B_7_LVDS3B_21n , V8 IO_3B_37_LVDS3B_6n , W2 IO_3B_2_LVDS3B_23p , W3 IO_3B_0_LVDS3B_24p 
part J pins: AA1 IO_3A_33_LVDS3A_8n , AA2 IO_3A_28_LVDS3A_10p/PLL_3A_CLKOUT1p,PLL_3A_CLKOUT1,PLL_3A_FB1, AA3 IO_3A_26_LVDS3A_11p/RZQ_3A, AA4 IO_3A_27_LVDS3A_11n , AA6 IO_3A_24_LVDS3A_12p/CLK_3A_1p, AA7 IO_3A_25_LVDS3A_12n/CLK_3A_1n, AA8 IO_3A_37_LVDS3A_6n , AA9 IO_3A_36_LVDS3A_6p , AB1 IO_3A_32_LVDS3A_8p , AB3 IO_3A_29_LVDS3A_10n/PLL_3A_CLKOUT1n, AB4 IO_3A_35_LVDS3A_7n , AB5 IO_3A_31_LVDS3A_9n , AB6 IO_3A_30_LVDS3A_9p , AC1 IO_3A_18_LVDS3A_15p/PLL_3A_CLKOUT0p,PLL_3A_CLKOUT0,PLL_3A_FB0, AC2 IO_3A_19_LVDS3A_15n/PLL_3A_CLKOUT0n, AC3 IO_3A_23_LVDS3A_13n/CLK_3A_0n, AC5 IO_3A_34_LVDS3A_7p , AC6 IO_3A_6_LVDS3A_21p , AC7 IO_3A_7_LVDS3A_21n , AD2 IO_3A_17_LVDS3A_16n , AD3 IO_3A_22_LVDS3A_13p/CLK_3A_0p, AD4 IO_3A_9_LVDS3A_20n , AD5 IO_3A_1_LVDS3A_24n , AE1 IO_3A_20_LVDS3A_14p , AE2 IO_3A_16_LVDS3A_16p , AE4 IO_3A_8_LVDS3A_20p , AE5 IO_3A_0_LVDS3A_24p , AE6 IO_3A_5_LVDS3A_22n , AF1 IO_3A_15_LVDS3A_17n , AF2 IO_3A_21_LVDS3A_14n , AF3 IO_3A_13_LVDS3A_18n , AF4 IO_3A_3_LVDS3A_23n , AF6 IO_3A_4_LVDS3A_22p , AG1 IO_3A_14_LVDS3A_17p , AG3 IO_3A_12_LVDS3A_18p , AG4 IO_3A_2_LVDS3A_23p , AH2 IO_3A_10_LVDS3A_19p , AH3 IO_3A_11_LVDS3A_19n , W4 IO_3A_46_LVDS3A_1p , W5 IO_3A_40_LVDS3A_4p , W7 IO_3A_45_LVDS3A_2n , W8 IO_3A_44_LVDS3A_2p , Y1 IO_3A_38_LVDS3A_5p , Y2 IO_3A_39_LVDS3A_5n , Y4 IO_3A_47_LVDS3A_1n , Y5 IO_3A_41_LVDS3A_4n , Y6 IO_3A_43_LVDS3A_3n , Y7 IO_3A_42_LVDS3A_3p 
part K pins: AB8 MSEL2, AB9 NCE, AC8 NCONFIG, AC10 TDI, AD7 MSEL1, AD8 NIO_PULLUP, AD9 DCLK, AE7 MSEL0, AE9 AS_DATA0,ASDO, AF7 NSTATUS, AF8 TRST, AF9 NCSO2, AG5 AS_DATA2, AG6 AS_DATA1, AG8 CONF_DONE, AH5 AS_DATA3, AH6 TMS, AH7 NCSO1, AH8 NCSO0, W10 TDO, Y9 TCK
part L pins: D12 GPIO2_IO2,NAND_WE_N,SDMMC_CCLK,QSPI_SS0,BOOTSEL2, E12 GPIO2_IO10,NAND_ADQ4,UART1_CTS_N,SDMMC_DATA6,SPIM0_SS0_N,EMAC2_MDIO,I2C_EMAC2_SDA, F12 GPIO2_IO0,NAND_ADQ0,SDMMC_DATA0,QSPI_CLK, F13 GPIO2_IO13,NAND_ADQ7,UART1_RX,QSPI_SS3,SPIS0_SS0_N,EMAC0_MDC,I2C_EMAC0_SCL, F14 GPIO2_IO5,NAND_ADQ3,SDMMC_DATA3,QSPI_IO3_HOLD, F16 GPIO2_IO9,NAND_CE_N,UART1_RTS_N,SDMMC_DATA5,SPIM0_MISO,EMAC1_MDC,I2C_EMAC1_SCL, G13 GPIO2_IO6,NAND_CLE,SDMMC_PWR_ENA,SPIM0_SS1_N,SPIS0_MISO,BOOTSEL1, G14 HPS_CLK1, G15 GPIO2_IO11,NAND_ADQ5,UART1_RX,SDMMC_DATA7,SPIS0_CLK,EMAC2_MDC,I2C_EMAC2_SCL, G16 GPIO2_IO1,NAND_ADQ1,SDMMC_CMD,QSPI_IO0, H12 GPIO2_IO4,NAND_ADQ2,SDMMC_DATA2,QSPI_IO2_WPN, H15 GPIO2_IO8,NAND_RB,UART1_TX,SDMMC_DATA4,SPIM0_MOSI,EMAC1_MDIO,I2C_EMAC1_SDA, J12 GPIO2_IO3,NAND_RE_N,SDMMC_DATA1,QSPI_IO1, J15 GPIO2_IO7,NAND_ALE,QSPI_SS1,SPIM0_CLK,BOOTSEL0, K11 HPS_nPOR, K12 HPS_nRST, K15 GPIO2_IO12,NAND_ADQ6,UART1_TX,QSPI_SS2,SPIS0_MOSI,EMAC0_MDIO,I2C_EMAC0_SDA
part M pins: E10 VSIGP_0, E11 VSIGN_0, F11 VSIGP_1, G10 ADCGND, G11 VSIGN_1, H10 TEMPDIODEN, H11 TEMPDIODEP, J10 VREFN_ADC, K10 VREFP_ADC
part N pins: A5 GND, A10 GND, A15 GND, A20 GND, A25 GND, AA10 GND, AA24 GND, AA25 GND, AA26 GND, AB2 GND, AB7 GND, AB10 GND, AB17 GND, AB22 GND, AB24 GND, AB27 GND, AB28 GND, AC4 GND, AC9 GND, AC24 GND, AC25 GND, AC26 GND, AD1 GND, AD6 GND, AD10 GND, AD11 GND, AD16 GND, AD21 GND, AD24 GND, AD27 GND, AD28 GND, AE3 GND, AE8 GND, AE13 GND, AE18 GND, AE24 GND, AE25 GND, AE26 GND, AF5 GND, AF10 GND, AF15 GND, AF20 GND, AF24 GND, AF27 GND, AF28 GND, AG2 GND, AG7 GND, AG12 GND, AG17 GND, AG22 GND, AG24 GND, AG25 GND, AG26 GND, AH4 GND, AH9 GND, AH14 GND, AH19 GND, AH26 GND, AH27 GND, B2 GND, B7 GND, B17 GND, B22 GND, B27 GND, B28 GND, C4 GND, C9 GND, C19 GND, C24 GND, C25 GND, C26 GND, C27 GND, D1 GND, D6 GND, D11 GND, D16 GND, D21 GND, D24 GND, D27 GND, D28 GND, E3 GND, E8 GND, E13 GND, E24 GND, E25 GND, E26 GND, F5 GND, F10 GND, F20 GND, F24 GND, F27 GND, F28 GND, G12 GND, G17 GND
part O pins: G2 GND, G22 GND, G24 GND, G25 GND, G26 GND, H4 GND, H14 GND, H24 GND, H27 GND, H28 GND, J1 GND, J6 GND, J11 GND, J16 GND, J21 GND, J24 GND, J25 GND, J26 GND, K3 GND, K13 GND, K24 GND, K27 GND, K28 GND, L10 GND, L15 GND, L20 GND, L21 GND, L22 GND, L23 GND, L24 GND, L25 GND, L26 GND, M2 GND, M12 GND, M17 GND, M21 GND, M27 GND, M28 GND, N4 GND, N9 GND, N14 GND, N19 GND, N21 GND, N22 GND, N25 GND, N26 GND, P1 GND, P11 GND, P16 GND, P21 GND, P22 GND, P27 GND, P28 GND, R3 GND, R8 GND, R13 GND, R18 GND, R21 GND, R22 GND, R25 GND, R26 GND, T10 GND, T15 GND, T20 GND, T21 GND, T27 GND, T28 GND, U2 GND, U12 GND, U17 GND, U21 GND, U22 GND, U25 GND, U26 GND, V9 GND, V14 GND, V19 GND, V21 GND, V22 GND, V27 GND, V28 GND, W1 GND, W11 GND, W16 GND, W22 GND, W25 GND, W26 GND, Y3 GND, Y13 GND, Y22 GND, Y23 GND, Y24 GND, Y27 GND, Y28 GND
part P pins: AH23 DNU, AH24 DNU, AH25 RREF_BL, C28 RREF_TL, M22 VCCH_GXBL_1, M23 VCCT_GXBL1D_1, M24 VCCT_GXBL1D_2, P23 VCCR_GXBL1D_1, P24 VCCR_GXBL1D_2, R12 VCCERAM_1, R17 VCCERAM_2, T22 VCCH_GXBL_2, T23 VCCT_GXBL1C_1, T24 VCCT_GXBL1C_2, V23 VCCR_GXBL1C_1, V24 VCCR_GXBL1C_2, Y10 DNU, Y11 DNU, Y12 DNU
part Q pins: H13 VCCIO_HPS, J13 VCCIOREF_HPS, J14 VCCPLL_HPS, K14 VCCL_HPS, L11 VCC, L12 VCC, L13 VCCL_HPS, L14 VCCL_HPS, L16 VCC, L17 VCC, L18 VCC, L19 VCC, M10 VCC, M11 VCC, M13 VCCL_HPS, M14 VCCPT, M15 VCC, M16 VCC, M18 VCCPT, M19 VCC, M20 VCC, N10 VCC, N11 VCCP, N12 VCC, N13 VCC, N15 VCC, N16 VCC, N17 VCCP, N18 VCC, N20 VCC, P10 VCC, P12 VCC, P13 VCCA_PLL, P14 VCC, P15 VCCA_PLL, P17 VCC, P18 VCC, P19 VCC, P20 VCC, R10 VCC, R11 VCC, R14 VCC, R15 VCC, R16 VCC, R19 VCC, R20 VCC, T11 VCC, T12 GNDSENSE, T13 VCCLSENSE, T14 VCC, T16 VCC, T17 VCC, T18 VCC, T19 VCC, U10 VCC, U11 VCCP, U13 VCCP, U14 VCC, U15 VCC, U16 VCCP, U18 VCC, U19 VCC, U20 VCC, V10 VCC, V11 VCC, V12 VCCPT, V13 VCC, V15 VCC, V16 VCC, V17 VCC, V18 VCCPT, V20 VCC, W12 VCC, W13 VCCBAT, W14 VCCPGM, W18 VCC, W19 VCC, Y14 VCCPGM
part R pins: AA5 VCCIO3A_1, AA15 VCCIO2A_1, AA20 VCCIO2J_2, AB12 VCCIO2A_2, AC14 VCCIO2A_3, AC19 VCCIO2J_3, B12 VCCIO2K_1, C14 VCCIO2K_2, E9 VREFB2KN0, E18 VCCIO2L_1, F15 VCCIO2K_3, G7 VCCIO3D_1, H9 VCCIO3D_2, H19 VCCIO2L_2, K8 VCCIO3D_3, K16 VREFB2LN0, K18 VCCIO2L_3, L5 VCCIO3C_1, M7 VCCIO3C_2, M9 VREFB3DN0, P6 VCCIO3C_3, R9 VREFB3CN0, T5 VCCIO3B_1, U7 VCCIO3B_2, U9 VREFB3BN0, V4 VCCIO3B_3, W6 VCCIO3A_2, W9 VREFB3AN0, W15 VREFB2AN0, W17 VREFB2JN0, Y8 VCCIO3A_3, Y18 VCCIO2J_1
part A text: BANK 1D
part B text: BANK 1C
part C text: BANK 2L
part D text: BANK 2K
part E text: BANK 2J
part F text: BANK 2A
part G text: BANK 3D
part H text: BANK 3C
part I text: BANK 3B
part J text: BANK 3A
part K text: Configuration
part L text: HPS
part M text: ADC
part N text: GND1
part O text: GND2
part P text: Power XCVR
part Q text: Power Core
part R text: Power VCCIO